# EAGLE library part TDA8587J (library Audio-Power-amlifier V.2.0)
4 ´ 25 W BTL power amplifier and multiple voltage regulator with power switch
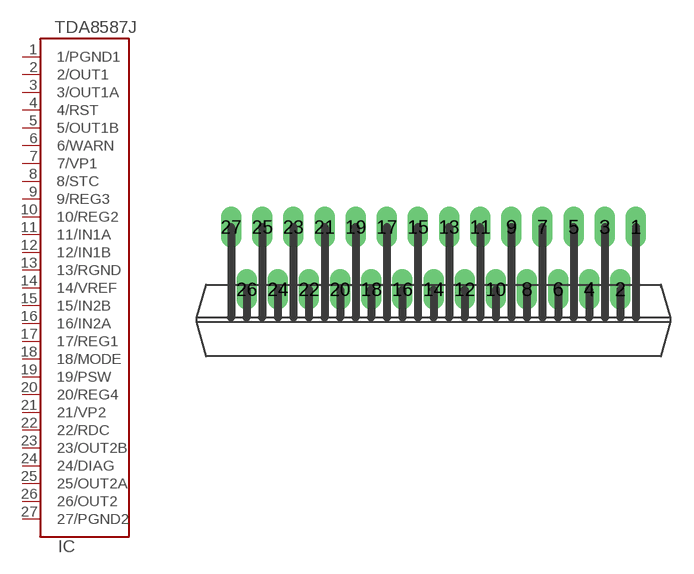
[diagram p221: symbol with the pads of SOT521-1; footprint SOT521-1]

Designator prefix IC

## TDA8587J  [SOT521-1]
1  1/PGND1  pwr
2  2/OUT1  out
3  3/OUT1A  out
4  4/RST  out
5  5/OUT1B  out
6  6/WARN  out
7  7/VP1  pwr
8  8/STC
9  9/REG3  out
10  10/REG2  out
11  11/IN1A  in
12  12/IN1B  in
13  13/RGND  pwr
14  14/VREF
15  15/IN2B  in
16  16/IN2A  in
17  17/REG1  out
18  18/MODE  in
19  19/PSW  out
20  20/REG4  out
21  21/VP2  pwr
22  22/RDC
23  23/OUT2B  out
24  24/DIAG  out
25  25/OUT2A  out
26  26/OUT2  out
27  27/PGND2  pwr

## Footprint SOT521-1 (pad centres in mm)
drill 0.8 long: 1 13,4; 2 12,0; 3 11,4; 4 10,0; 5 9,4; 6 8,0; 7 7,4; 8 6,0; 9 5,4; 10 4,0; 11 3,4; 12 2,0; 13 1,4; 14 0,0; 15 -1,4; 16 -2,0; 17 -3,4; 18 -4,0; 19 -5,4; 20 -6,0; 21 -7,4; 22 -8,0; 23 -9,4; 24 -10,0; 25 -11,4; 26 -12,0; 27 -13,4